# EAGLE library part USB_HOST (library LocalLib)
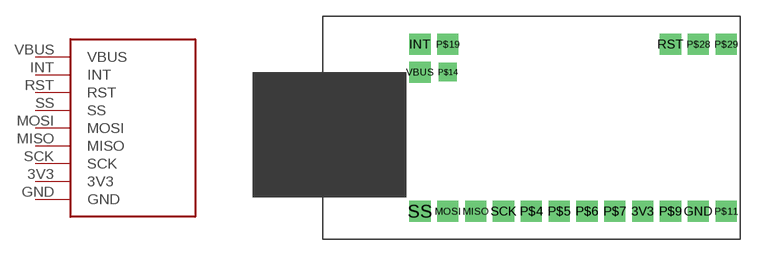
[diagram p3: symbol with the pads of USB_HOST; footprint USB_HOST]

Designator prefix -

## USB_HOST  [USB_HOST]
3V3  3V3
GND  GND
INT  INT
MISO  MISO
MOSI  MOSI
RST  RST
SCK  SCK
SS  SS
VBUS  VBUS

## Footprint USB_HOST (pad centres in mm)
drill 1 pad 1.93 square: 3V3 29.21,2.54; GND 34.29,2.54; INT 8.89,17.78; MISO 13.97,2.54; MOSI 11.43,2.54; P$4 19.05,2.54; P$5 21.59,2.54; P$6 24.13,2.54; P$7 26.67,2.54; P$9 31.75,2.54; P$11 36.83,2.54; P$19 11.43,17.78; P$28 34.29,17.78; P$29 36.83,17.78; RST 31.75,17.78; SCK 16.51,2.54; SS 8.89,2.54; VBUS 8.89,15.24
drill 1 pad 1.676 square: P$14 11.43,15.24